# Altium footprint library Mount_Antenna.PcbLib: 22 footprints (part 2 of 2)
Each footprint in its own frame and in the unit in brackets; x right, y up, seen from the top. Pads: shape width x height; smd on the part's side, far side on the other; paste and mask are expansions set on the pad; w line width, h text height; cw(c..) or ccw(c..) is an arc to the next point about the centre after c.
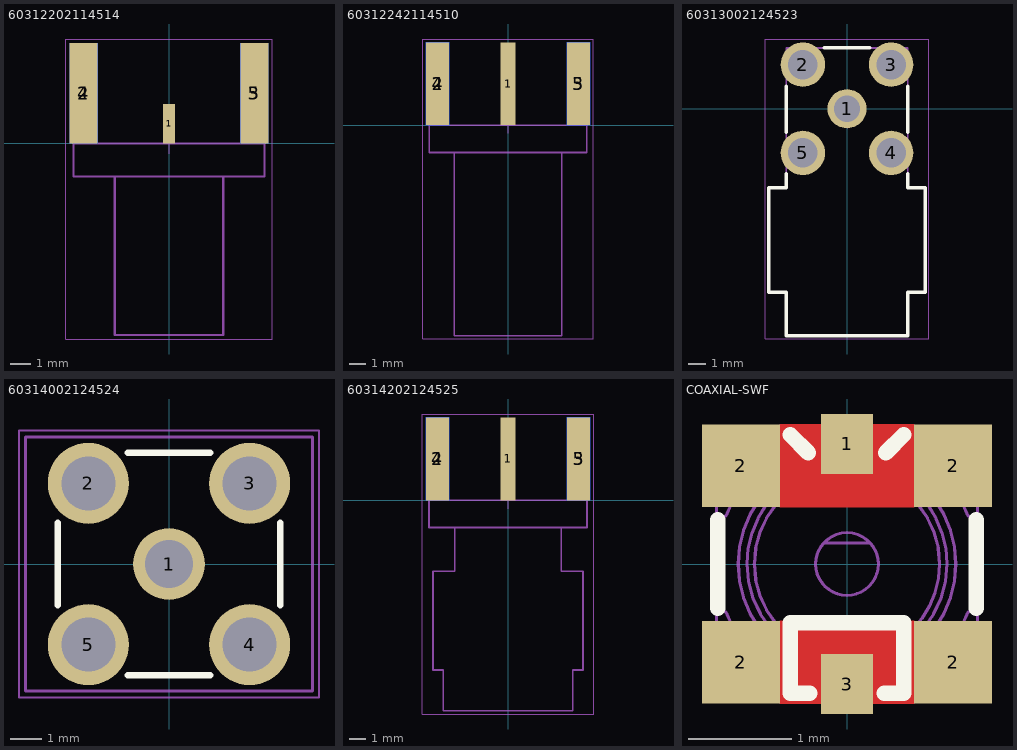
[diagram p1: the footprints below, top view; thin cyan lines are the x and y axes]

## 60312202114514 [mm] "SMA PCB End Launch Jack Flat  Tab for 1.6mm PCB"
height 7.92
pads (5):
  rect 0.61x1.97 smd: 1(0,0.985)
  rect 1.4x5 smd: 2(-4.25,2.5) 3(4.25,2.5)
  rect 1.4x5 smd far side: 4(-4.25,2.5) 5(4.25,2.5)
Mechanical 2:
  lines w0.1: -4.76,0 4.76,0
  text "PCB Thickness 1.6mm" at -3.7,-10.2 h0.8
  text "PCB End" at -1.5,-0.7 h0.8
Mechanical 13:
  lines w0.1: -2.7,-1.64 -2.7,-9.53 2.7,-9.53 2.7,-1.64 ; -4.76,-1.64 -4.76,4.76 -3.74,4.76 -3.74,0 -0.255,0 -0.255,1.9 0.255,1.9 0.255,0 3.74,0 3.74,4.76 4.76,4.76 4.76,-1.64 -4.76,-1.64
Mechanical 15:
  lines w0.05: -0.5,0 0.5,0 ; 0,-0.5 0,0.5 ; -5.15,-9.73 5.15,-9.73 5.15,5.2 -5.15,5.2 -5.15,-9.73
3D body "60312202114514.stp": height 4.08, standoff -3.85, extent -4.76,-9.53 4.76,4.76

## 60312242114510 [mm] "SMA PCB End Launch Jack Round  Post Rear Mount Bulkhead for  1.6mm PCB"
height 9.52
pads (5):
  rect 0.9x5 smd: 1(0,2.5)
  rect 1.4x5 smd: 2(-4.25,2.5) 3(4.25,2.5)
  rect 1.4x5 smd far side: 4(-4.25,2.5) 5(4.25,2.5)
Mechanical 2:
  lines w0.1: -4.76,0 4.76,0
  text "PCB End" at -1.3,-0.7 h0.8
  text "PCB Thickness 1.6mm" at -3.6,-13.5 h0.8
Mechanical 13:
  lines w0.1: -3.25,-1.65 -3.25,-12.7 3.25,-12.7 3.25,-1.65 ; -4.76,-1.65 -4.76,4.75 -3.74,4.75 -3.74,0 -0.38,0 -0.38,4.75 0.38,4.75 0.38,0 3.74,0 3.74,4.75 4.76,4.75 4.76,-1.65 -4.76,-1.65
Mechanical 15:
  lines w0.05: -0.5,0 0.5,0 ; 0,-0.5 0,0.5 ; -5.15,-12.9 -5.15,5.2 5.15,5.2 5.15,-12.9 -5.15,-12.9
3D body "60312242114510.stp": height 5.5, standoff -4.7, extent -5.1,-12.7 5.1,4.75

## 60313002124523 [mm] "SMA PCB THT Plug Right Angle"
height 9.86
pads (5):
  round 2.25 hole 1.5: 1(0,0)
  round 2.55 hole 1.7: 2(-2.54,2.54) 3(2.54,2.54) 4(2.54,-2.54) 5(-2.54,-2.54)
Top Overlay:
  lines w0.2: -3.5,-3.75 -3.5,-4.55 -4.5,-4.55 -4.5,-10.55 -3.5,-10.55 -3.5,-13.05 3.5,-13.05 3.5,-10.55 4.5,-10.55 4.5,-4.55 3.5,-4.55 3.5,-3.75 ; -3.5,-1.35 -3.5,1.3 ; -1.3,3.5 1.3,3.5 ; 3.5,-1.35 3.5,1.3
Mechanical 13:
  lines w0.1: -4.5,-10.55 -4.5,-4.55 -3.5,-4.55 -3.5,-3.5 -3.5,3.5 3.5,3.5 3.5,-3.5 3.5,-4.55 4.5,-4.55 4.5,-10.55 3.5,-10.55 3.5,-13.05 -3.5,-13.05 -3.5,-10.55 -4.5,-10.55
Mechanical 15:
  lines w0.05: -0.5,0 0.5,0 ; 0,-0.5 0,0.5 ; -4.7,-13.25 4.7,-13.25 4.7,4.015 -4.7,4.015 -4.7,-13.25
3D body "60313002124523.stp": height 10.19, standoff -3.91, extent -4.519,-13.05 4.519,3.5

## 60314002124524 [mm] "SMA PCB THT Plug Straight"
height 12.66
pads (5):
  round 2.25 hole 1.5: 1(0,0)
  round 2.55 hole 1.7: 2(-2.54,2.54) 3(2.54,2.54) 4(2.54,-2.54) 5(-2.54,-2.54)
Top Overlay:
  lines w0.2: -3.5,-1.3 -3.5,1.3 ; -1.3,-3.5 1.3,-3.5 ; -1.3,3.5 1.3,3.5 ; 3.5,-1.3 3.5,1.3
Mechanical 13:
  lines w0.1: -4.52,-4 4.52,-4 4.52,4 -4.52,4 -4.52,-4
Mechanical 15:
  lines w0.05: -0.5,0 0.5,0 ; 0,-0.5 0,0.5 ; -4.72,-4.2 4.72,-4.2 4.72,4.2 -4.72,4.2 -4.72,-4.2
3D body "60314002124524.stp": height 12.69, standoff -3.91, extent -4.519,-4 4.519,4

## 60314202124525 [mm] "SMA PCB End Launch Plug Round  Post for 1.6mm PCB"
height 7.92
pads (5):
  rect 0.9x5 smd: 1(0,2.5)
  rect 1.4x5 smd: 2(-4.25,2.5) 3(4.25,2.5)
  rect 1.4x5 smd far side: 4(-4.25,2.5) 5(4.25,2.5)
Mechanical 2:
  lines w0.1: -4.76,0 4.76,0
  text "PCB End" at -1.4,-0.7 h0.8
  text "PCB Thickness 1.6mm" at -3.5,-13.3 h0.8
Mechanical 13:
  lines w0.1: -3.21,-1.64 -3.21,-4.27 -4.52,-4.27 -4.52,-10.22 -3.9,-10.22 -3.9,-12.67 3.9,-12.67 3.9,-10.22 4.52,-10.22 4.52,-4.27 3.21,-4.27 3.21,-1.64 ; -4.76,-1.64 4.76,-1.64 4.76,4.76 3.74,4.76 3.74,0 0.38,0 0.38,4.76 -0.38,4.76 -0.38,0 -3.74,0 -3.74,4.76 -4.76,4.76 -4.76,-1.64
Mechanical 15:
  lines w0.05: -0.5,0 0.5,0 ; 0,-0.5 0,0.5 ; -5.15,-12.87 5.15,-12.87 5.15,5.2 -5.15,5.2 -5.15,-12.87
3D body "60314202124525.stp": height 4.4, standoff -3.6, extent -4.76,-12.67 4.76,4.76

## COAXIAL-SWF [mm]
pads (6):
  rect 0.5x0.58 smd: 1(0,1.16) 3(0,-1.16)
  rect 0.75x0.8 smd: 2(-1.025,-0.95) 2(-1.025,0.95) 2(1.025,-0.95) 2(1.025,0.95)
Top Layer:
  pour cut-out: 0.65,-0.55 -0.65,-0.55 -0.65,-1.35 0.65,-1.35
  pour cut-out: -0.65,0.55 0.65,0.55 0.65,1.35 -0.65,1.35
Top Overlay:
  lines w0.15: -1.25,-0.43 -1.25,0.43 ; -0.55,1.25 -0.375,1.075 ; -0.36,-1.25 -0.55,-1.25 -0.55,-0.57 0.55,-0.57 0.55,-1.25 0.36,-1.25 ; 0.375,1.075 0.55,1.25 ; 1.25,-0.43 1.25,0.43
Mechanical 7:
  drawing of 206 lines, arcs and shapes, not listed
  text ".Designator" at -2.048,-1.187 h0.38
3D body: height 1.55, standoff 1.25, extent -1.05,-1.05 1.05,1.05
3D body: height 1.25, standoff 0.95, extent -1.05,-1.049 1.05,1.05
3D body: height 0.9, standoff 0.6, extent -1.05,-1.049 1.05,1.05
3D body: height 0.55, standoff 0.1, extent -1.262,-1.252 1.262,1.253
3D body: height 0.6, standoff 0, extent -1.262,0.655 -0.757,1.248
3D body: height 0.6, standoff 0, extent -1.262,-1.25 -0.757,-0.649
3D body: height 0.6, standoff 0, extent 0.757,-1.246 1.262,-0.653
3D body: height 0.6, standoff 0, extent 0.757,0.655 1.262,1.249
3D body: height 0.95, standoff 0.75, extent -1,-0.999 1,1.001
3D body: height 0.75, standoff 0.6, extent -1.05,-1.049 1.05,1.05
3D body: height 1.4, standoff 0.6, extent -0.9,-0.9 0.9,0.901
3D body: height 0.6, standoff 0.55, extent -1.262,-1.248 1.262,1.251
3D body: height 0.15, standoff 0, extent -0.227,0.899 0.227,1.299
3D body: height 0.15, standoff 0, extent -0.227,-1.301 0.227,-0.758